# Altium schematic symbol library NFC_SCHLIB.SCHLIB: 4 symbols
Pins are listed as number, name and electrical type; pins without a type are passive.

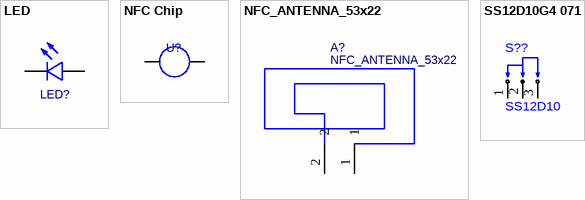
[diagram p0: symbols LED to SS12D10G4 071]

## LED
designator LED?
BOM_Manufacturer: BrtLed; BOM_Manufacturer Part: BL-HB337A-AV-TRB; Contributor: LCSC; BOM_Supplier: LCSC; BOM_Supplier Part: C165977; BOM_JLCPCB Part Class: Extended Part; spicePre: L; spiceSymbolName: BL-HB337A-AV-TRB
footprint LED 0805R (红色0805LED)
pins: 1 K, 2 A

## NFC Chip
designator U?
BOM_Manufacturer: UniOhm; BOM_Manufacturer Part: 0603WAF1002T5E; nameAlias: Resistance; Resistance (Ohms): 10K; BOM_Supplier: LCSC; BOM_Supplier Part: C25804; BOM_JLCPCB Part Class: Basic Part; spicePre: R; spiceSymbolName: 0603WAF1002T5E
footprint COB-213
pins: 1, 2

## NFC_ANTENNA_53x22
designator A?
Contributor: Lockon; spicePre: U; spiceSymbolName: NFC_ANTENNA_53x22
footprint NFC_ANTENNA_53X22
pins: 1, 2

## SS12D10G4 071
designator S??, comment SS12D10
footprint SS-12D10 (脚距3mm)
pins: 1, 2, 3